# EAGLE library part WS2813 (library Personal)
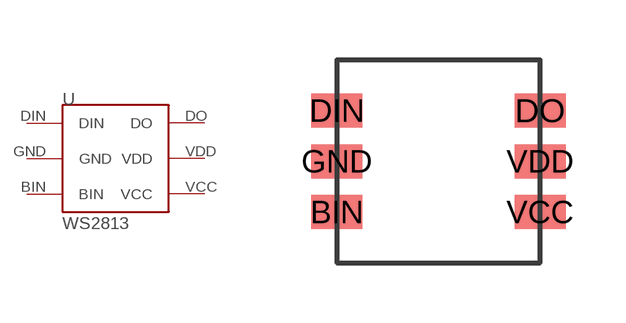
[diagram p0: symbol with the pads of WS2813; footprint WS2813]

Designator prefix U

## WS2813  [WS2813]
BIN  BIN
DIN  DIN
DO  DO
GND  GND
VCC  VCC
VDD  VDD

## Footprint WS2813 (pad centres in mm)
smd 1.27 x 0.85: BIN 0,1.27; DIN 0,3.81; DO 5.08,3.81; GND 0,2.54; VCC 5.08,1.27; VDD 5.08,2.54